# EAGLE library part MP3V7007GP (library libMP3V7007GP)
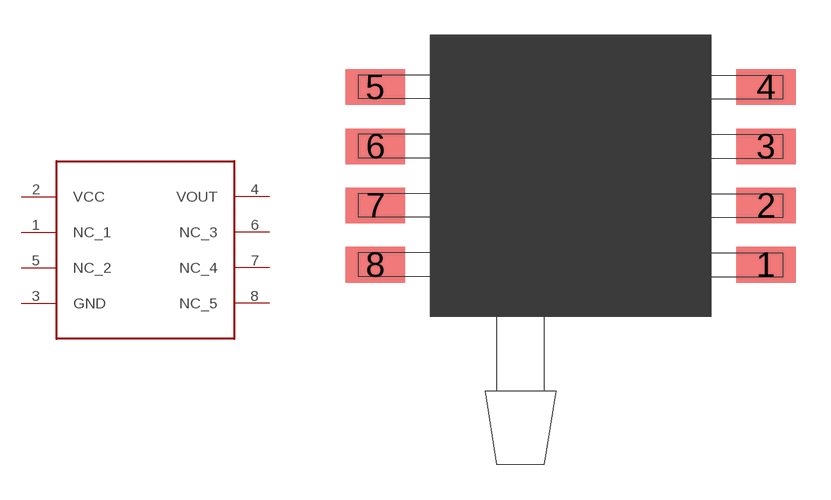
[diagram p0: symbol with the pads of SMP_MP3V7007; footprint SMP_MP3V7007]

Designator prefix -

## MP3V7007GP  [SMP_MP3V7007]
1  NC_1
2  VCC
3  GND
4  VOUT
5  NC_2
6  NC_3
7  NC_4
8  NC_5

## Footprint SMP_MP3V7007 (pad centres in mm)
smd 2.54 x 1.524: 1 8.382,-3.81; 2 8.382,-1.27; 3 8.382,1.27; 4 8.382,3.81; 5 -8.382,3.81; 6 -8.382,1.27; 7 -8.382,-1.27; 8 -8.382,-3.81